# EAGLE library part 85 (library display-lcd-lxd)
4.5 Numerical Digit, .80" (20.32) Direct Drive Display Additional Descriptors: Left Arrow, +, -
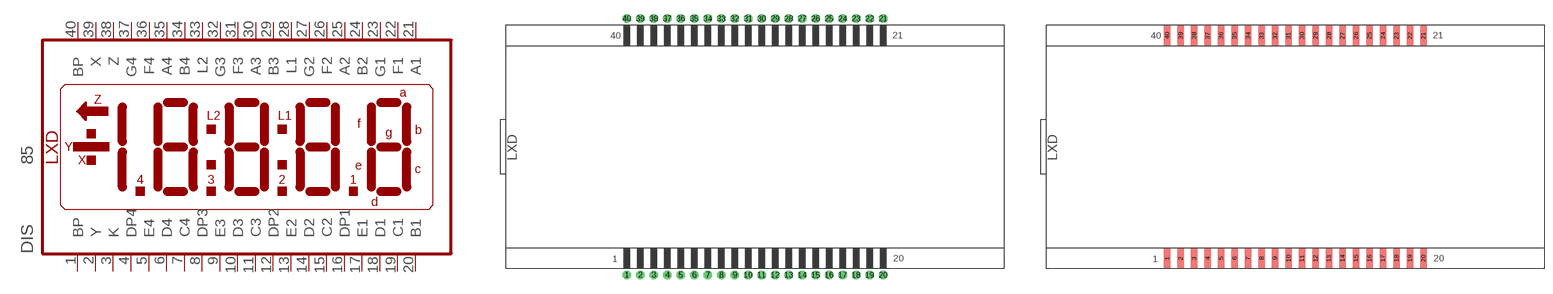
[diagram p20: symbol with the pads of 85-D; footprints 85-D, 85-E]

Designator prefix DIS

## 85DIP  [85-D]
1  BP  pas
2  Y  pas
3  K  pas
4  DP4  pas
5  E4  pas
6  D4  pas
7  C4  pas
8  DP3  pas
9  E3  pas
10  D3  pas
11  C3  pas
12  DP2  pas
13  E2  pas
14  D2  pas
15  C2  pas
16  DP1  pas
17  E1  pas
18  D1  pas
19  C1  pas
20  B1  pas
21  A1  pas
22  F1  pas
23  G1  pas
24  B2  pas
25  A2  pas
26  F2  pas
27  G2  pas
28  L1  pas
29  B3  pas
30  A3  pas
31  F3  pas
32  G3  pas
33  L2  pas
34  B4  pas
35  A4  pas
36  F4  pas
37  G4  pas
38  Z  pas
39  X  pas
40  BP  pas

## 85SMD  [85-E]
Pads as for 85-D

## Footprint 85-D (pad centres in mm)
Glass Size: 3.695" x 1.80" &nbsp &nbsp &nbsp &nbsp &nbsp &nbsp &nbsp &nbsp &nbsp (93.85 x 45.72)
drill 0.813 pad 1.6 octagon: 1 -24.13,-24.13; 2 -21.59,-24.13; 3 -19.05,-24.13; 4 -16.51,-24.13; 5 -13.97,-24.13; 6 -11.43,-24.13; 7 -8.89,-24.13; 8 -6.35,-24.13; 9 -3.81,-24.13; 10 -1.27,-24.13; 11 1.27,-24.13; 12 3.81,-24.13; 13 6.35,-24.13; 14 8.89,-24.13; 15 11.43,-24.13; 16 13.97,-24.13; 17 16.51,-24.13; 18 19.05,-24.13; 19 21.59,-24.13; 20 24.13,-24.13; 21 24.13,24.13; 22 21.59,24.13; 23 19.05,24.13; 24 16.51,24.13; 25 13.97,24.13; 26 11.43,24.13; 27 8.89,24.13; 28 6.35,24.13; 29 3.81,24.13; 30 1.27,24.13; 31 -1.27,24.13; 32 -3.81,24.13; 33 -6.35,24.13; 34 -8.89,24.13; 35 -11.43,24.13; 36 -13.97,24.13; 37 -16.51,24.13; 38 -19.05,24.13; 39 -21.59,24.13; 40 -24.13,24.13

## Footprint 85-E (pad centres in mm)
Glass Size: 3.695" x 1.80" &nbsp &nbsp &nbsp &nbsp &nbsp &nbsp &nbsp &nbsp &nbsp (93.85 x 45.72)
smd 1.27 x 3.81: 1 -24.13,-20.955; 2 -21.59,-20.955; 3 -19.05,-20.955; 4 -16.51,-20.955; 5 -13.97,-20.955; 6 -11.43,-20.955; 7 -8.89,-20.955; 8 -6.35,-20.955; 9 -3.81,-20.955; 10 -1.27,-20.955; 11 1.27,-20.955; 12 3.81,-20.955; 13 6.35,-20.955; 14 8.89,-20.955; 15 11.43,-20.955; 16 13.97,-20.955; 17 16.51,-20.955; 18 19.05,-20.955; 19 21.59,-20.955; 20 24.13,-20.955; 21 24.13,20.955; 22 21.59,20.955; 23 19.05,20.955; 24 16.51,20.955; 25 13.97,20.955; 26 11.43,20.955; 27 8.89,20.955; 28 6.35,20.955; 29 3.81,20.955; 30 1.27,20.955; 31 -1.27,20.955; 32 -3.81,20.955; 33 -6.35,20.955; 34 -8.89,20.955; 35 -11.43,20.955; 36 -13.97,20.955; 37 -16.51,20.955; 38 -19.05,20.955; 39 -21.59,20.955; 40 -24.13,20.955